# Altium schematic symbol library PowerSupply.SchLib: 1 symbol
Pins are listed as number, name and electrical type; pins without a type are passive.

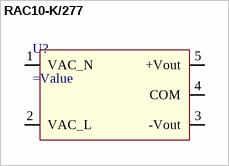
[diagram p0: symbol RAC10-K/277]

## RAC10-K/277
designator U?
RECOM AC/DC converter
pins: 1 VAC_N, 2 VAC_L, 3 -Vout, 4 COM, 5 +Vout